# Altium schematic symbol library ST2378ETTR.SchLib: 1 symbol
Pins are listed as number, name and electrical type; pins without a type are passive.

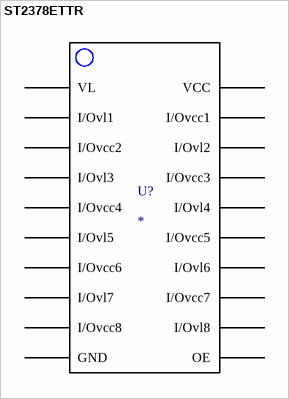
[diagram p0: symbol ST2378ETTR]

## ST2378ETTR
designator U?
8 bit Logic Level Shifter; PartNumber: ST2378ETTR; Manufacturer: STMicroelectronics
footprint TSSOP20
pins: 1 VL, 2 I/Ovl1, 3 I/Ovcc2, 4 I/Ovl3, 5 I/Ovcc4, 6 I/Ovl5, 7 I/Ovcc6, 8 I/Ovl7, 9 I/Ovcc8, 10 GND, 11 OE, 12 I/Ovl8, 13 I/Ovcc7, 14 I/Ovl6, 15 I/Ovcc5, 16 I/Ovl4, 17 I/Ovcc3, 18 I/Ovl2, 19 I/Ovcc1, 20 VCC